# Altium footprint library AltiumLibraries.PcbLib: 84 footprints (part 3 of 6)
Each footprint in its own frame and in the unit in brackets; x right, y up, seen from the top. Pads: shape width x height; smd on the part's side, far side on the other; paste and mask are expansions set on the pad; w line width, h text height; cw(c..) or ccw(c..) is an arc to the next point about the centre after c.
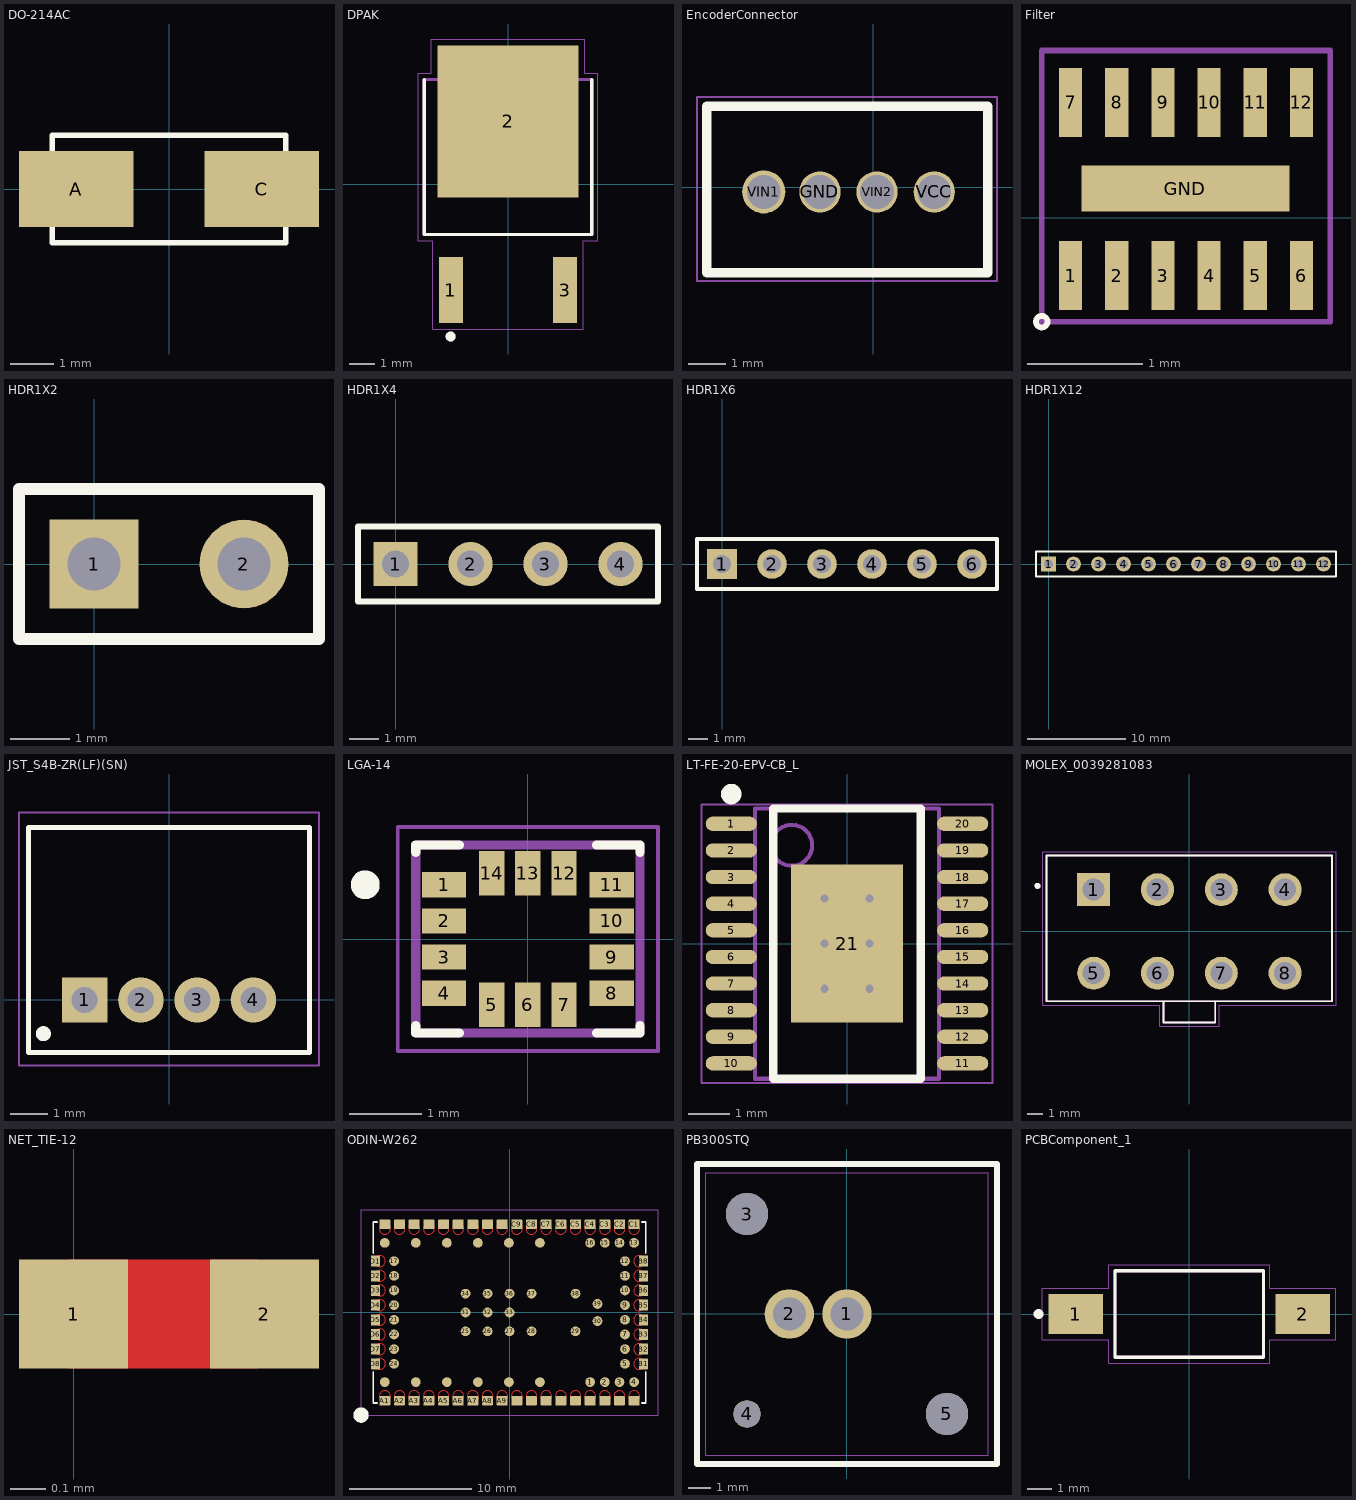
[diagram p2: the footprints below, top view; thin cyan lines are the x and y axes]

## DO-214AC [mm]
pads (2):
  rect 2.65x1.75 smd: A(-2.15,0) C(2.15,0)
Top Overlay:
  lines w0.127: -2.7,-1.25 2.7,-1.25 2.7,1.25 -2.7,1.25 -2.7,-1.25

## DPAK [mm]
pads (3):
  rect 0.95x2.64 smd: 1(-2.286,-4.24) 3(2.286,-4.24)
  rect 5.63x6.09 smd: 2(0,2.51)
Top Overlay:
  circle w0.2: c-2.3,-6.1 r0.1
  lines w0.127: -3.35,4.185 -3.35,-2.015 3.35,-2.015 3.35,4.185
Bottom Overlay:
  lines w0.127: 3.35,-2.015 3.35,4.185
Top Paste:
  region: 1.225,3.24 2.535,3.24 2.535,1.78 1.225,1.78
  region: 1.225,5.27 2.535,5.27 2.535,3.81 1.225,3.81
  region: 1.225,1.21 2.535,1.21 2.535,-0.25 1.225,-0.25
  region: -2.535,1.21 -1.225,1.21 -1.225,-0.25 -2.535,-0.25
  region: -2.535,3.24 -1.225,3.24 -1.225,1.78 -2.535,1.78
  region: -2.535,5.27 -1.225,5.27 -1.225,3.81 -2.535,3.81
  region: -0.655,1.21 0.655,1.21 0.655,-0.25 -0.655,-0.25
  region: -0.655,5.27 0.655,5.27 0.655,3.81 -0.655,3.81
  region: -0.655,3.24 0.655,3.24 0.655,1.78 -0.655,1.78
Mechanical 4:
  circle w0.2: c-2.3,-6.1 r0.1
  circle w0.2: c-2.3,-6.1 r0.1
  lines w0.127: -3.35,-2.015 -3.35,4.185 ; -3.35,-2.015 3.35,-2.015 ; -3.35,-2.015 -3.35,4.185 ; -3.35,-2.015 3.35,-2.015 ; -3.35,4.185 3.35,4.185 ; -3.35,4.185 3.35,4.185 ; 3.35,-2.015 3.35,4.185 ; 3.35,-2.015 3.35,4.185
Mechanical 15:
  lines w0.05: -3.6,-2.27 -3.02,-2.27 -3.02,-5.81 3.02,-5.81 3.02,-2.27 3.6,-2.27 3.6,4.44 3.065,4.44 3.065,5.81 -3.065,5.81 -3.065,4.44 -3.6,4.44 -3.6,-2.27

## EncoderConnector [mm] "CONN HEADER R/A 4POS 1.5MM"
pads (4):
  round 1.1 hole 0.9: GND(-1.421,-0.127) VCC(1.627,-0.127) VIN2(0.103,-0.127)
  round 1.15 hole 0.9: VIN1(-2.921,-0.127)
Top Overlay:
  lines w0.254: 3.048,-2.286 3.048,2.159 ; 3.055,-2.286 -4.445,-2.286 -4.445,2.159 3.055,2.159
Mechanical 15:
  lines w0.05: -4.7,-2.5 3.3,-2.5 3.3,2.4 -4.7,2.4 -4.7,-2.5

## Filter [mm]
pads (13):
  rect 0.2x0.6 smd mask+0.05: 1(-2.9,-0.5) 2(-2.5,-0.5) 3(-2.1,-0.5) 4(-1.7,-0.5) 5(-1.3,-0.5) 6(-0.9,-0.5) 7(-2.9,1) 8(-2.5,1) 9(-2.1,1) 10(-1.7,1) 11(-1.3,1) 12(-0.9,1)
  rect 1.8x0.4 smd: GND(-1.905,0.254)
Top Overlay:
  circle w0.05: c-3.15,-0.9 r0.05
Mechanical 1:
  lines w0.05: -3.15,0.25 -3.15,1.45 -0.65,1.45 -0.65,0.25 ; -3.15,0.3 -3.15,-0.9 -0.65,-0.9 -0.65,0.3

## HDR1X2 [mm]
pads (2):
  rect 1.5x1.5 hole 0.9: 1(0,0)
  round 1.5 hole 0.9: 2(2.54,0)
Top Overlay:
  lines w0.2: -1.27,-1.27 3.81,-1.27 3.81,1.27 -1.27,1.27 -1.27,-1.27

## HDR1X4 [mm]
pads (4):
  rect 1.5x1.5 hole 0.9: 1(0,0)
  round 1.5 hole 0.9: 2(2.54,0) 3(5.08,0) 4(7.62,0)
Top Overlay:
  lines w0.2: -1.27,-1.27 8.89,-1.27 8.89,1.27 -1.27,1.27 -1.27,-1.27

## HDR1X6 [mm]
pads (6):
  rect 1.5x1.5 hole 0.9: 1(0,0)
  round 1.5 hole 0.9: 2(2.54,0) 3(5.08,0) 4(7.62,0) 5(10.16,0) 6(12.7,0)
Top Overlay:
  lines w0.2: -1.27,-1.27 13.97,-1.27 13.97,1.27 -1.27,1.27 -1.27,-1.27

## HDR1X12 [mm]
pads (12):
  rect 1.5x1.5 hole 0.9: 1(0,0)
  round 1.5 hole 0.9: 2(2.54,0) 3(5.08,0) 4(7.62,0) 5(10.16,0) 6(12.7,0) 7(15.24,0) 8(17.78,0) 9(20.32,0) 10(22.86,0) 11(25.4,0) 12(27.94,0)
Top Overlay:
  lines w0.2: -1.27,-1.27 -1.27,1.27 0.635,1.27 29.21,1.27 29.21,-1.27 -1.27,-1.27

## JST_S4B-ZR(LF)(SN) [mm]
pads (4):
  rect 1.208x1.208 hole 0.7: 1(-2.25,0)
  round 1.208 hole 0.7: 2(-0.75,0) 3(0.75,0) 4(2.25,0)
Top Overlay:
  circle w0.2: c-3.35,-0.9 r0.1
  lines w0.127: -3.75,-1.4 -3.75,4.6 3.75,4.6 3.75,-1.4 -3.75,-1.4
Mechanical 16:
  lines w0.05: -4,-1.75 -4,5 4,5 4,-1.75 -4,-1.75
3D body "S4B-ZR.STEP": height 3.7, standoff -2.7, extent -3.75,-1.428 3.75,4.572

## LGA-14 [mm]
pads (14):
  rect 0.61x0.35 smd: 1(-1.16,0.75) 2(-1.16,0.25) 3(-1.16,-0.25) 4(-1.16,-0.75) 8(1.16,-0.75) 9(1.16,-0.25) 10(1.16,0.25) 11(1.16,0.75)
  rect 0.35x0.61 smd: 5(-0.5,-0.91) 6(0,-0.91) 7(0.5,-0.91) 12(0.5,0.91) 13(0,0.91) 14(-0.5,0.91)
Top Overlay:
  circle w0.2: c-2.25,0.75 r0.1
  lines w0.127: -1.55,-1.2 -1.55,-1.3 -0.95,-1.3 ; -1.55,1.2 -1.55,1.3 -0.95,1.3 ; 0.95,-1.3 1.55,-1.3 1.55,-1.2 ; 0.95,1.3 1.55,1.3 1.55,1.2
Mechanical 4:
  lines w0.127: -1.55,-1.3 1.55,-1.3 ; -1.55,-1.3 -1.55,1.3 ; -1.55,-1.3 1.55,-1.3 ; -1.55,-1.3 -1.55,1.3 ; -1.55,1.3 1.55,1.3 ; -1.55,1.3 1.55,1.3 ; 1.55,-1.3 1.55,1.3 ; 1.55,-1.3 1.55,1.3
Mechanical 16:
  lines w0.05: -1.8,-1.55 1.8,-1.55 1.8,1.55 -1.8,1.55 -1.8,-1.55

## LT-FE-20-EPV-CB_L [mm] "SOP, 20-Leads, Body 6.6x4.5mm, Pitch 0.65mm, Thermal Pad 3.86x2.74mm, IPC High Density"
height 1.2
pads (21):
  oval 1.25x0.35 smd: 1(-2.825,2.925) 2(-2.825,2.275) 3(-2.825,1.625) 4(-2.825,0.975) 5(-2.825,0.325) 6(-2.825,-0.325) 7(-2.825,-0.975) 8(-2.825,-1.625) 9(-2.825,-2.275) 10(-2.825,-2.925) 11(2.825,-2.925) 12(2.825,-2.275) 13(2.825,-1.625) 14(2.825,-0.975) 15(2.825,-0.325) 16(2.825,0.325) 17(2.825,0.975) 18(2.825,1.625) 19(2.825,2.275) 20(2.825,2.925)
  rect 2.74x3.86 smd: 21(0,0)
via -0.55,1.1 diameter 0.5 hole 0.2
via 0.55,1.1 diameter 0.5 hole 0.2
via -0.55,0 diameter 0.5 hole 0.2
via 0.55,0 diameter 0.5 hole 0.2
via -0.55,-1.1 diameter 0.5 hole 0.2
via 0.55,-1.1 diameter 0.5 hole 0.2
Top Overlay:
  circle w0.25: c-2.825,3.65 r0.125
  lines w0.2: -1.8,-3.3 -1.8,3.3 1.8,3.3 1.8,-3.3 -1.8,-3.3
Mechanical 13:
  circle w0.1: c-1.35,2.4 r0.5
  lines w0.1: -2.25,-3.3 -2.25,3.3 2.25,3.3 2.25,-3.3 -2.25,-3.3
Mechanical 15:
  lines w0.05: -3.55,-3.4 -3.55,3.4 3.55,3.4 3.55,-3.4 -3.55,-3.4
  lines w0.1: -0.5,0 0.5,0 ; 0,-0.5 0,0.5
3D body: height 1.2, standoff 0.05, extent -2.25,-3.3 2.25,3.3

## MOLEX_0039281083 [mm]
pads (8):
  rect 2.175x2.175 hole 1.45: 1(-6.3,2.75)
  round 2.175 hole 1.45: 2(-2.1,2.75) 3(2.1,2.75) 4(6.3,2.75) 5(-6.3,-2.75) 6(-2.1,-2.75) 7(2.1,-2.75) 8(6.3,-2.75)
Top Overlay:
  circle w0.2: c-10,3 r0.1
  lines w0.127: -1.7,-4.6 -9.4,-4.6 -9.4,5 9.4,5 9.4,-4.6 1.7,-4.6 ; -1.7,-4.6 1.7,-4.6 ; -1.7,-4.6 -1.7,-6 1.7,-6 1.7,-4.6
Mechanical 4:
  circle w0.2: c-10,3 r0.1
  circle w0.2: c-10,3 r0.1
  lines w0.127: -9.4,-4.6 -9.4,5 ; -9.4,-4.6 -1.7,-4.6 ; -9.4,-4.6 -9.4,5 ; -9.4,-4.6 -1.7,-4.6 ; -9.4,5 9.4,5 ; -9.4,5 9.4,5 ; -1.7,-6 1.7,-6 ; -1.7,-6 -1.7,-4.6 ; -1.7,-6 1.7,-6 ; -1.7,-6 -1.7,-4.6 ; -1.7,-4.6 1.7,-4.6 ; -1.7,-4.6 1.7,-4.6 ; 1.7,-6 1.7,-4.6 ; 1.7,-6 1.7,-4.6 ; 1.7,-4.6 9.4,-4.6 ; 1.7,-4.6 9.4,-4.6 ; 9.4,-4.6 9.4,5 ; 9.4,-4.6 9.4,5
Mechanical 15:
  lines w0.05: -9.65,-4.85 -1.95,-4.85 -1.95,-6.25 1.95,-6.25 1.95,-4.85 9.65,-4.85 9.65,5.25 -9.65,5.25 -9.65,-4.85

## NET_TIE-12 [mil] "12mil patch for net tie."
pads (2):
  rect 12x12 smd paste-12: 1(0,0) 2(21,0)
Top Layer:
  lines w12: 0,0 19.68,0

## ODIN-W262 [mm]
pads (103):
  round 0.8 smd: 1(6.6,-5.7) 2(7.8,-5.7) 3(9,-5.7) 4(10.2,-5.7) 5(9.45,-4.2) 6(9.45,-3) 7(9.45,-1.8) 8(9.45,-0.6) 9(9.45,0.6) 10(9.45,1.8) 11(9.45,3) 12(9.45,4.2) 13(10.2,5.7) 14(9,5.7) 15(7.8,5.7) 16(6.6,5.7) 17(-9.45,4.2) 18(-9.45,3) 19(-9.45,1.8) 20(-9.45,0.6) 21(-9.45,-0.6) 22(-9.45,-1.8) 23(-9.45,-3) 24(-9.45,-4.2) 25(-3.6,-1.54) 26(-1.8,-1.54) 27(0,-1.54) 28(1.8,-1.54) 29(5.4,-1.54) 30(7.2,-0.7) 31(-3.6,0) 32(-1.8,0) 33(0,0) 34(-3.6,1.54) 35(-1.8,1.54) 36(0,1.54) 37(1.8,1.54) 38(5.4,1.54) 39(7.2,0.7) TP1(2.49,-5.7) TP2(2.49,5.7) TP3(-0.05,-5.7) TP4(-0.05,5.7) TP5(-2.59,-5.7) TP6(-2.59,5.7) TP7(-5.13,-5.7) TP8(-5.13,5.7) TP9(-7.67,-5.7) TP10(-7.67,5.7) TP11(-10.21,-5.7) TP12(-10.21,5.7)
  rrect15% 0.9x0.75 smd paste-1 mask+0: A1(-10.2,-7.225) A2(-9,-7.225) A3(-7.8,-7.225) A4(-6.6,-7.225) A5(-5.4,-7.225) A6(-4.2,-7.225) A7(-3,-7.225) A8(-1.8,-7.225) A9(-0.6,-7.225) A10(0.6,-7.225) A11(1.8,-7.225) A12(3,-7.225) A13(4.2,-7.225) A14(5.4,-7.225) A15(6.6,-7.225) A16(7.8,-7.225) A17(9,-7.225) A18(10.2,-7.225) C1(10.2,7.225) C2(9,7.225) C3(7.8,7.225) C4(6.6,7.225) C5(5.4,7.225) C6(4.2,7.225) C7(3,7.225) C8(1.8,7.225) C9(0.6,7.225) C10(-0.6,7.225) C11(-1.8,7.225) C12(-3,7.225) C13(-4.2,7.225) C14(-5.4,7.225) C15(-6.6,7.225) C16(-7.8,7.225) C17(-9,7.225) C18(-10.2,7.225)
  rrect15% 0.75x0.9 smd paste-1 mask+0: B1(10.975,-4.2) B2(10.975,-3) B3(10.975,-1.8) B4(10.975,-0.6) B5(10.975,0.6) B6(10.975,1.8) B7(10.975,3) B8(10.975,4.2) D1(-10.975,4.2) D2(-10.975,3) D3(-10.975,1.8) D4(-10.975,0.6) D5(-10.975,-0.6) D6(-10.975,-1.8) D7(-10.975,-3) D8(-10.975,-4.2)
Top Layer:
  circle w0: c10.6,4.2 r0.45
  circle w0: c10.6,3 r0.45
  circle w0: c10.6,1.8 r0.45
  circle w0: c10.6,0.6 r0.45
  circle w0: c10.6,-0.6 r0.45
  circle w0: c10.6,-1.8 r0.45
  circle w0: c10.6,-3 r0.45
  circle w0: c10.6,-4.2 r0.45
  circle w0: c-10.6,-4.2 r0.45
  circle w0: c-10.6,-3 r0.45
  circle w0: c-10.6,-1.8 r0.45
  circle w0: c-10.6,-0.6 r0.45
  circle w0: c-10.6,0.6 r0.45
  circle w0: c-10.6,1.8 r0.45
  circle w0: c-10.6,3 r0.45
  circle w0: c-10.6,4.2 r0.45
  circle w0: c4.2,6.85 r0.45
  circle w0: c5.4,6.85 r0.45
  circle w0: c6.6,6.85 r0.45
  circle w0: c7.8,6.85 r0.45
  circle w0: c9,6.85 r0.45
  circle w0: c10.2,6.85 r0.45
  circle w0: c-10.2,6.85 r0.45
  circle w0: c-9,6.85 r0.45
  circle w0: c-7.8,6.85 r0.45
  circle w0: c-6.6,6.85 r0.45
  circle w0: c-5.4,6.85 r0.45
  circle w0: c-4.2,6.85 r0.45
  circle w0: c-3,6.85 r0.45
  circle w0: c-1.8,6.85 r0.45
  circle w0: c-0.6,6.85 r0.45
  circle w0: c0.6,6.85 r0.45
  circle w0: c1.8,6.85 r0.45
  circle w0: c3,6.85 r0.45
  circle w0: c-4.2,-6.85 r0.45
  circle w0: c-5.4,-6.85 r0.45
  circle w0: c-6.6,-6.85 r0.45
  circle w0: c-7.8,-6.85 r0.45
  circle w0: c-9,-6.85 r0.45
  circle w0: c-10.2,-6.85 r0.45
  circle w0: c10.2,-6.85 r0.45
  circle w0: c9,-6.85 r0.45
  circle w0: c7.8,-6.85 r0.45
  circle w0: c6.6,-6.85 r0.45
  circle w0: c5.4,-6.85 r0.45
  circle w0: c4.2,-6.85 r0.45
  circle w0: c3,-6.85 r0.45
  circle w0: c1.8,-6.85 r0.45
  circle w0: c0.6,-6.85 r0.45
  circle w0: c-0.6,-6.85 r0.45
  circle w0: c-1.8,-6.85 r0.45
  circle w0: c-3,-6.85 r0.45
Top Overlay:
  circle w0.75: c-12.15,-8.4 r0.25
  lines w0.15: -11.15,-4.85 -11.15,-7.4 -10.85,-7.4 ; -11.15,4.85 -11.15,7.4 -10.85,7.4 ; 10.85,-7.4 11.15,-7.4 11.15,-4.85 ; 10.85,7.4 11.15,7.4 11.15,4.85
Top Paste:
  drawing of 52 lines, arcs and shapes, not listed
Top Solder:
  drawing of 56 lines, arcs and shapes, not listed
Mechanical 13:
  lines w0.05: -0.5,0 0.5,0 ; 0,-0.5 0,0.5
Mechanical 15:
  lines w0.1: -12.15,-8.4 12.15,-8.4 12.15,8.4 -12.15,8.4 -12.15,-8.4
3D body "ODIN-W262-05B.stp": height 4.8, standoff 0, extent -11.15,-7.4 11.15,7.4

## PB300STQ [mm] "SWITCH PUSH SPST-NO 0.3A 28V"
pads (5):
  round 2.175 hole 1.45: 1(0,0) 2(-2.54,0)
  round 1.86 hole 1.86 unplated: 3(-4.4,4.4) 5(4.4,-4.4)
  round 1.2 hole 1.2 unplated: 4(-4.4,-4.4)
Top Overlay:
  lines w0.254: -6.604,-6.604 -6.604,6.604 6.604,6.604 6.604,-6.604 -6.604,-6.604
Mechanical 15:
  lines w0.051: -6.223,-6.223 -6.223,6.223 6.223,6.223 6.223,-6.223 -6.223,-6.223
3D body "PB300STQ.stp": height 10.35, standoff -3.25, extent -6.2,-6.2 6.2,6.2

## PCBComponent_1 [mm]
pads (2):
  rect 2.19x1.6 smd: 1(-4.59,0) 2(4.59,0)
Top Overlay:
  circle w0.2: c-6.096,0 r0.1
  lines w0.127: -3,-1.75 3,-1.75 3,1.75 -3,1.75 -3,-1.75
Mechanical 13:
  lines w0.127: -3,-1.75 3,-1.75 3,1.75 -3,1.75 -3,-1.75
Mechanical 15:
  lines w0.05: -5.935,-1.05 -5.935,1.05 -3.25,1.05 -3.25,2 3.25,2 3.25,1.05 5.935,1.05 5.935,-1.05 3.25,-1.05 3.25,-2 -3.25,-2 -3.25,-1.05 -5.935,-1.05